# Altium footprint library 103AT2.PcbLib: 1 footprints
Each footprint in its own frame and in the unit in brackets; x right, y up, seen from the top. Pads: shape width x height; smd on the part's side, far side on the other; paste and mask are expansions set on the pad; w line width, h text height; cw(c..) or ccw(c..) is an arc to the next point about the centre after c.
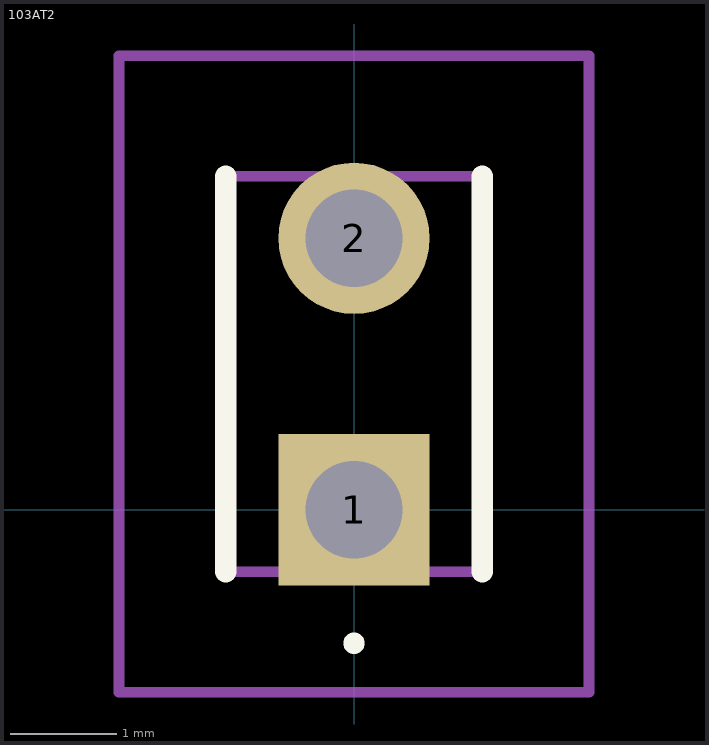
[diagram p0: the footprint, top view; thin cyan lines are the x and y axes]

## 103AT2 [mm]
pads (2):
  rect 1.416x1.416 hole 0.91: 1(0,0)
  round 1.416 hole 0.91: 2(0,2.54)
Top Overlay:
  lines w0.1: 0,-1.3 cw(c0,-1.25) 0,-1.2 ; 0,-1.3 0,-1.3 ; 0,-1.3 ccw(c0,-1.25) 0,-1.2 ; 0,-1.2 0,-1.2
  lines w0.2: -1.2,-0.58 -1.2,3.12 ; 1.2,-0.58 1.2,3.12
Mechanical 15:
  lines w0.1: -1.2,-0.58 1.2,-0.58 1.2,3.12 -1.2,3.12 -1.2,-0.58
Mechanical 20:
  lines w0.1: -2.2,-1.708 2.2,-1.708 2.2,4.248 -2.2,4.248 -2.2,-1.708